# Altium integrated library Hardware.IntLib: 15 symbols
Pins are listed as number, name and electrical type; pins without a type are passive.

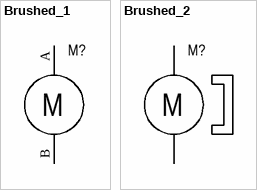
[diagram p0: symbols Brushed_1 to Brushed_2]

## Brushed_1
designator M?
Brushed motor; Component: Motor Brushed; Group: Mechanical; Power: W; Operating temperature: -°C +°C; Mounting type: Through hole; Dimension: .0mm x .0mm; Height: .0mm
pins: A, B
text: M

## Brushed_2
designator M?
Brushed motor; Component: Motor Brushed; Group: Mechanical; Power: W; Operating temperature: -°C +°C; Mounting type: Through hole; Dimension: .0mm x .0mm; Height: .0mm
pins: A, B
text: M


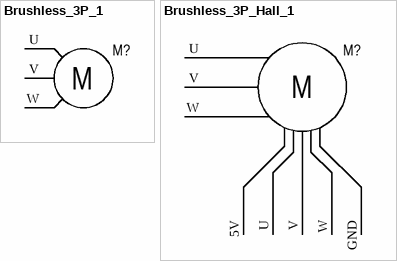
[diagram p1: symbols Brushless_3P_1 to Brushless_3P_Hall_1]

## Brushless_3P_1
designator M?
Brushless 3 phases; Component: Motor Brushed; Group: Mechanical; Power: W; Operating temperature: -°C +°C; Mounting type: Through hole; Dimension: .0mm x .0mm; Height: .0mm
pins: U, V, W
text: M

## Brushless_3P_Hall_1
designator M?
Brushless 3 phases hall sensors; Component: Motor Brushed; Group: Mechanical; Power: W; Operating temperature: -°C +°C; Mounting type: Through hole; Dimension: .0mm x .0mm; Height: .0mm
pins: 5V, GND, U, U, V, V, W, W
text: M


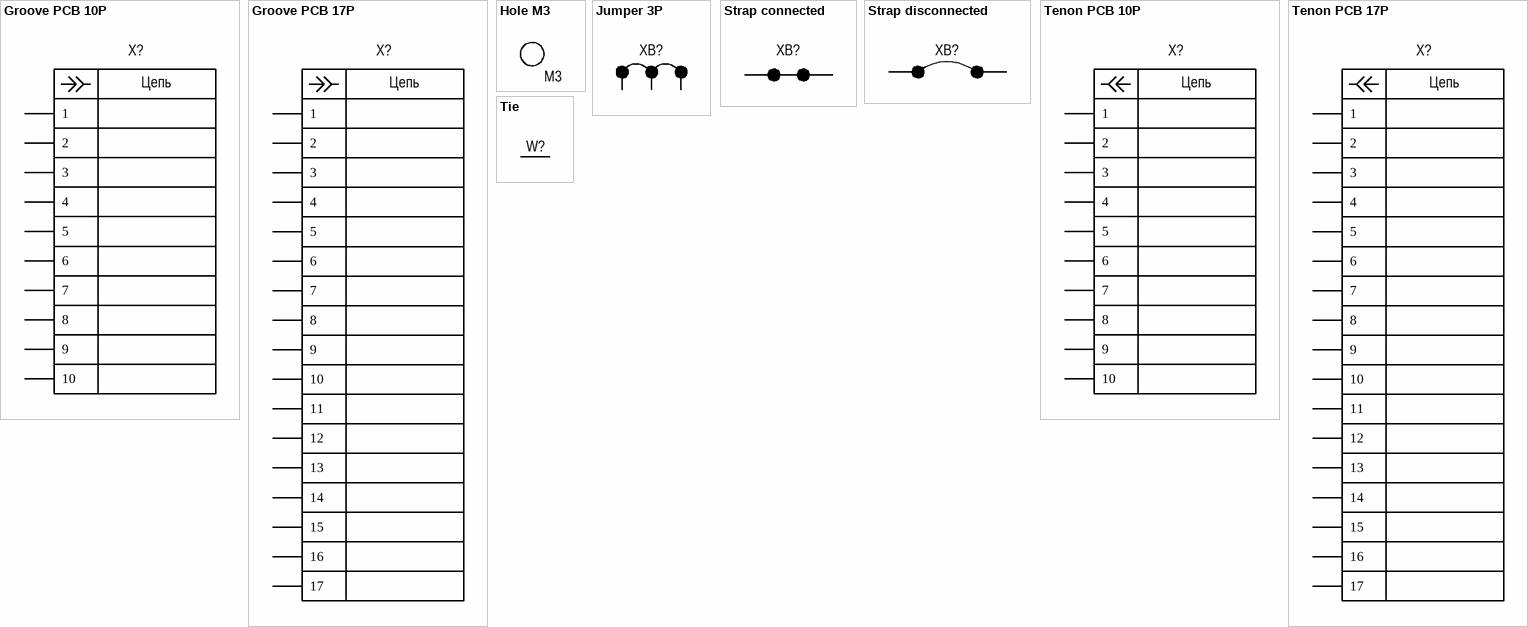
[diagram p2: symbols Groove PCB 10P to Tie]

## Groove PCB 10P
designator X?  (value not drawn)  (no BOM)
PCB connector Groove, 10p; Group: Mechanical; Component: Hardware Board; Height: 0.00mm; Mounting type: Board
footprint Groove PCB 10P (Groove PCB connection)
pins: 1, 2, 3, 4, 5, 6, 7, 8, 9, 10
text: Цепь

## Groove PCB 17P
designator X?  (value not drawn)  (no BOM)
PCB connector Groove, 17p; Group: Mechanical; Component: Hardware Board; Height: 0.00mm; Mounting type: Board
footprint Groove PCB 17P (Groove PCB connection)
pins: 1, 2, 3, 4, 5, 6, 7, 8, 9, 10, 11, 12, 13, 14, 15, 16, 17
text: Цепь

## Hole M3
designator Hole?, comment M3  (no BOM)
Hole M3; Component: Hardware Board; Group: Mechanical; Height: 0.00mm; Mounting type: Board
footprint Hole M3
pins: 1

## Jumper 3P
designator XB?  (no BOM)
Jumper 3P; Group: Ceramic Resistors; Component: Hardware Board; Package: 1206 (3216); Dimension: 5.00mm x 2.50mm; Height: 0.85mm; Mounting type: Surface mount
footprint Jumper 3P 2012 disconnected
pins: 1, 2, 3

## Strap connected
designator XB?, comment Strap  (value not drawn)  (no BOM)
Component: Hardware Board; Group: Mechanical; Height: 0.00mm; Mounting type: Board
footprint Strap 2012 connected 0.25mm (Strap 0.25mm 2012 connected)
footprint Strap 2012 connected 0.5mm
footprint Strap 2012 connected 1mm
pins: 1, 2

## Strap disconnected
designator XB?  (no BOM)
Strap disconnected; Group: Ceramic Resistors; Component: Hardware Board; Package: 1206 (3216); Dimension: 5.00mm x 2.50mm; Height: 0.85mm; Mounting type: Surface mount
footprint Strap 2012 disconnected
footprint RESC2012N_NM (Chip Resistor, Body 2.0x1.2mm, IPC High Density)
footprint RESC1608N NM (Chip Resistor, Body 1.6x0.8mm, IPC High Density)
pins: 1, 2

## Tenon PCB 10P
designator X?  (value not drawn)  (no BOM)
PCB connector Tenon, 10p; Group: Mechanical; Component: Hardware Board; Height: 0.00mm; Mounting type: Board
footprint Tenon PCB 10P (Tenon PCB connection)
pins: 1, 2, 3, 4, 5, 6, 7, 8, 9, 10
text: Цепь

## Tenon PCB 17P
designator X?  (value not drawn)  (no BOM)
PCB connector Tenon, 17p; Group: Mechanical; Component: Hardware Board; Height: 0.00mm; Mounting type: Board
footprint Tenon PCB 17P (Tenon PCB connection)
pins: 1, 2, 3, 4, 5, 6, 7, 8, 9, 10, 11, 12, 13, 14, 15, 16, 17
text: Цепь

## Tie
designator W?  (value not drawn)  (net tie, no BOM)
Component: Hardware Board; Group: Mechanical; Height: 0.00mm; Mounting type: Board
footprint Tie line 0.25
footprint Tie point 0.25
footprint Tie line 0.5
footprint Tie point 0.5
footprint Tie line 1.0
footprint Tie point 1.0
footprint Tie line 0.15
footprint Tie point 0.15
footprint Tie line 0.3
footprint Tie point 0.3
footprint Tie line 2.0
footprint Tie point 2.0
footprint Tie line 3.0
footprint Tie point 3.0
pins: 1, 2


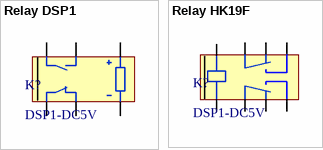
[diagram p3: symbols Relay DSP1 to Relay HK19F]

## Relay DSP1
designator K?, comment DSP1-DC5V
footprint Relay DSP1
pins: 1, 5, 8, 9, 12, 16

## Relay HK19F
designator K?, comment DSP1-DC5V
footprint Relay HK19F
pins: 1, 4, 6, 8, 9, 11, 13, 16